# EAGLE library part PIC16F88 (library MyParts)
This powerful (200 nanosecond instruction execution) yet easy?to-program (only 35 single word instructions) CMOS Flash-based 8-bit microcontroller packs Microchip?s powerful PIC® architecture into an 18-pin package and is upwards compatible with the PIC16C7x, PIC16C62xA, PIC16C5X and PIC12CXXX devices. The PIC16F88 features 8 MHz internal oscillator, 256 bytes of EEPROM data memory, a capture/compare/PWM, an Addressable USART, a synchronous serial port that can be configured as either 3-wire Serial Peripheral Interface (SPI?) or the 2-wire Inter-Integrated Circuit (I²C?) bus, 7 channels of 10-bit Analog-to-Digital (A/D) converter and 2 Comparators that make it ideal for advantage analog / integrated level applications in automotive, industrial, appliances and consumer applications.
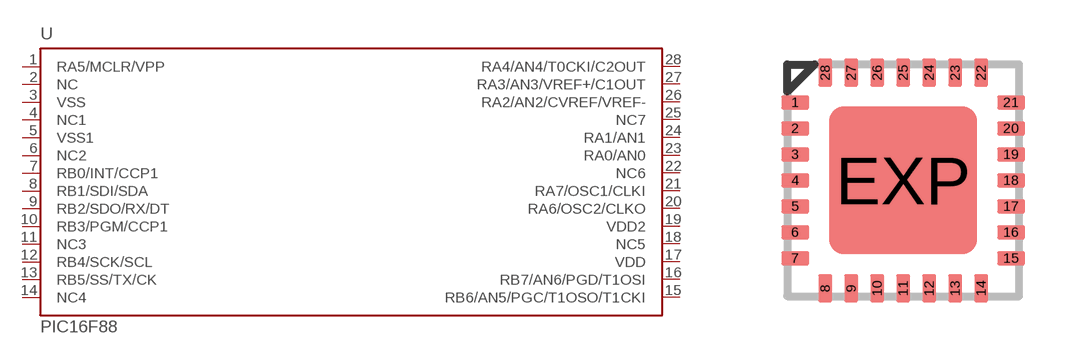
[diagram p3: symbol with the pads of QFN28-ML_6X6MM; footprint QFN28-ML_6X6MM]

Designator prefix -

## PIC16F88  [QFN28-ML_6X6MM]
1  RA5/MCLR/VPP  in
2  NC
3  VSS
4  NC1
5  VSS1
6  NC2
7  RB0/INT/CCP1
8  RB1/SDI/SDA  pwr
9  RB2/SDO/RX/DT
10  RB3/PGM/CCP1
11  NC3
12  RB4/SCK/SCL
13  RB5/SS/TX/CK
14  NC4
15  RB6/AN5/PGC/T1OSO/T1CKI
16  RB7/AN6/PGD/T1OSI
17  VDD
18  NC5
19  VDD2  pwr
20  RA6/OSC2/CLKO  pwr
21  RA7/OSC1/CLKI
22  NC6
23  RA0/AN0
24  RA1/AN1
25  NC7
26  RA2/AN2/CVREF/VREF-
27  RA3/AN3/VREF+/C1OUT
28  RA4/AN4/T0CKI/C2OUT

## Footprint QFN28-ML_6X6MM (pad centres in mm)
QFN28-ML_6X6MM Source: http://www.microchip.com .. 39637a.pdf
smd 0.7 x 0.35: 1 -2.7,1.95; 2 -2.7,1.3; 3 -2.7,0.65; 4 -2.7,0; 5 -2.7,-0.65; 6 -2.7,-1.3; 7 -2.7,-1.95; 15 2.7,-1.95; 16 2.7,-1.3; 17 2.7,-0.65; 18 2.7,0; 19 2.7,0.65; 20 2.7,1.3; 21 2.7,1.95
smd 0.35 x 0.7: 8 -1.95,-2.7; 9 -1.3,-2.7; 10 -0.65,-2.7; 11 0,-2.7; 12 0.65,-2.7; 13 1.3,-2.7; 14 1.95,-2.7; 22 1.95,2.7; 23 1.3,2.7; 24 0.65,2.7; 25 0,2.7; 26 -0.65,2.7; 27 -1.3,2.7; 28 -1.95,2.7
smd 3.7 x 3.7: EXP 0,0